# Altium schematic symbol library Schlib1.SchLib: 19 symbols
Pins are listed as number, name and electrical type; pins without a type are passive.

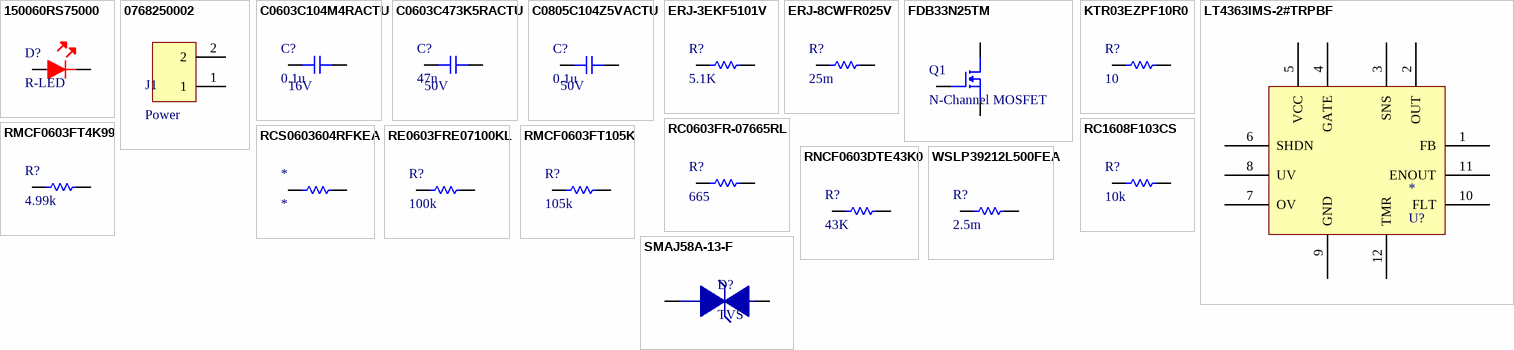
[diagram p0: symbols 150060RS75000 to WSLP39212L500FEA]

## 150060RS75000
designator D?, comment R-LED
LED Low-Power Uni-Color Red 630nm 2V 2-Pin Chip 0603(1608Metric) T/R; Manufacturer: Wurth Electronics; Manufacturer Part Number: 150060RS75000; Viewing Angle: 140°; Lens Style: Clear,Rectangular; Luminous Intensity: 250mcd; Forward Current: 30mA; Wavelength: 625nm; Test Current: 20mA; Supplier 1: Digi-Key; RoHS: Yes; Category: LEDs; Stock 1: 42280; Pricing 1: 1=0.15000, 50=0.13800, 100=0.11800, 500=0.10200, 1000=0.09900 (USD); Mount: Surface Mount; Case/Package: 0603; Color: Red; Case Code (Metric): 1608; Case Code (Imperial): 0603; Min Operating Temperature: -40°C; Max Operating Temperature: 85°C; Package Quantity: 1; Packaging: Cut Tape; Forward Voltage: 2V; Dominant Wavelength: 625nm; Length: 1.6mm; Width: 0.8mm; Height: 0.7mm; REACH SVHC: Unknown; RoHS Compliant: Yes; ComponentLink1URL: https://datasheet.ciiva.com/29563/150060rs75000-29563040.pdf?src-supplier=Digi-Key; ComponentLink1Description: https://datasheet.ciiva.com/29563/150060rs75000-29563040.pdf?src-supplier=Digi-Key; ComponentLink2URL: https://datasheet.ciiva.com/29279/759428-da-01-en-chipled-0603-w-kl-rot-150060rs75000-29279196.pdf?src-supplier=Conrad; ComponentLink2Description: https://datasheet.ciiva.com/29279/759428-da-01-en-chipled-0603-w-kl-rot-150060rs75000-29279196.pdf?src-supplier=Conrad; Supplier Part Number 1: 732-4978-1-ND
footprint D-0603 (Molded Diode, 2-Leads, Body 1.50x0.80mm, IPC Medium Density)
pins: 1, 2

## 0768250002
designator J1, comment Power
Mega-Fit Right-Angle Header, 2 Circuits, Tin (Sn) Plating, UL 94 V-0, Glow-Wire Capable, Tray; Manufacturer: Molex; Manufacturer Part Number: 0768250002; Number of Positions: 2; Connector Type: Male Pin; Row Spacing: 0.224inch; Supplier 1: Digi-Key; RoHS: Yes; Category: Headers and Wire Housings; Stock 1: 41185; Pricing 1: 1=1.31000, 10=1.08200, 80=0.90150, 1850=0.67615, 3700=0.65361 (USD); Mount: Through Hole; Color: Black; Contact Plating: Tin; Number of Rows: 2; Termination: Solder; Packaging: Tray; Fastening Type: Ramp; ComponentLink1URL: http://www.farnell.com/datasheets/2216551.pdf?src-supplier=Farnell; ComponentLink1Description: http://www.farnell.com/datasheets/2216551.pdf?src-supplier=Farnell; ComponentLink2URL: https://www.molex.com/pdm_docs/sd/768250002_sd.pdf?src-supplier=Digi-Key; ComponentLink2Description: https://www.molex.com/pdm_docs/sd/768250002_sd.pdf?src-supplier=Digi-Key; ComponentLink3URL: http://www.farnell.com/datasheets/2216551.pdf?src-supplier=Newark; ComponentLink3Description: http://www.farnell.com/datasheets/2216551.pdf?src-supplier=Newark; Supplier Part Number 1: WM11969-ND
footprint 2X1PIN
pins: 1, 2

## C0603C104M4RACTU
designator C?, comment 0.1u  Voltage Rating: 16V
Cap Ceramic 0.1uF 16V X7R 20% SMD 0603 125°C Paper T/R; Manufacturer: KEMET; Manufacturer Part Number: C0603C104M4RACTU; Capacitance: 100nF; Supplier 1: Digi-Key; RoHS: Yes; Category: Ceramic Capacitors; Stock 1: 293652; Pricing 1: 1=0.10000, 10=0.03300, 50=0.01800, 100=0.01470, 500=0.01046, 1000=0.00822 (USD); Mount: Surface Mount,PCB; Case/Package: 0603; Number of Pins: 2; Case Code (Metric): 1608; Case Code (Imperial): 0603; Dielectric Material: Ceramic; Min Operating Temperature: -55°C; Max Operating Temperature: 125°C; Package Quantity: 1; Tolerance: 20%; Packaging: Tape and Reel; Voltage Rating (DC): 16V; Dielectric: X7R; Termination: SMD/SMT; Series: C; Construction: Flat; Length: 1.6mm; Width: 0.031inch; Height: 0.8mm; Thickness: 0.034inch; Lead Pitch: 0.7mm; Depth: 0.8mm; Radiation Hardening: No; REACH SVHC: No SVHC; RoHS Compliant: Yes; ComponentLink1URL: https://datasheet.ciiva.com/7823/kem-c1002-x7r-smd-7823992.pdf?src-supplier=Element14; ComponentLink1Description: https://datasheet.ciiva.com/7823/kem-c1002-x7r-smd-7823992.pdf?src-supplier=Element14; ComponentLink2URL: https://datasheet.ciiva.com/7823/kem-c1002-x7r-smd-7823993.pdf?src-supplier=Element14; ComponentLink2Description: https://datasheet.ciiva.com/7823/kem-c1002-x7r-smd-7823993.pdf?src-supplier=Element14; ComponentLink3URL: https://datasheet.ciiva.com/14589/70095383-14589450.pdf?src-supplier=Allied+Electronics; ComponentLink3Description: https://datasheet.ciiva.com/14589/70095383-14589450.pdf?src-supplier=Allied+Electronics; ComponentLink4URL: https://datasheet.ciiva.com/18102/getdatasheetpartid-66190-18102310.pdf?src-supplier=Verical; ComponentLink4Description: https://datasheet.ciiva.com/18102/getdatasheetpartid-66190-18102310.pdf?src-supplier=Verical; ComponentLink5URL: https://datasheet.ciiva.com/18192/getdatasheetpartid-302288-18192716.pdf?src-supplier=Verical; ComponentLink5Description: https://datasheet.ciiva.com/18192/getdatasheetpartid-302288-18192716.pdf?src-supplier=Verical; Supplier Part Number 1: 339-C0603C104M4RAC7867CT-ND
footprint C0603 (Chip Capacitor, 2-Leads, Body 1.60x0.80mm, IPC Medium Density)
pins: 1, 2

## C0603C473K5RACTU
designator C?, comment 47n  Voltage Rating (DC): 50V
C0603C 47nF Ceramic Multilayer Capacitor; 50 VDC; +125degC; X7R Dielec; +/-10%; Manufacturer: KEMET; Manufacturer Part Number: C0603C473K5RACTU; Tolerance: 10%; Dissipation Factor: 2.5%; Supplier 1: Digi-Key; RoHS: Yes; Category: Ceramic Capacitors; Stock 1: 1799272; Pricing 1: 1=0.10000, 10=0.07100, 50=0.03860, 100=0.03160, 500=0.02254, 1000=0.01771 (USD); Mount: Surface Mount,PCB; Case/Package: 0603; Number of Pins: 2; Dielectric Material: Ceramic; Case Code (Metric): 1608; Case Code (Imperial): 0603; Min Operating Temperature: -55°C; Max Operating Temperature: 125°C; Capacitance: 47nF; Dielectric: X7R; Packaging: Tape and Reel; Package Quantity: 1; Voltage Rating: 50V; Termination: SMD/SMT; Series: C; Construction: Flat; Voltage: 50V; Length: 1.6mm; Width: 0.8mm; Height: 0.8mm; Lead Pitch: 0.7mm; Depth: 0.8mm; Thickness: 0.034inch; Radiation Hardening: No; RoHS Compliant: Yes; REACH SVHC: No SVHC; ComponentLink1URL: https://datasheet.ciiva.com/6074/1776093-6074329.pdf?src-supplier=Farnell; ComponentLink1Description: https://datasheet.ciiva.com/6074/1776093-6074329.pdf?src-supplier=Farnell; ComponentLink2URL: https://datasheet.ciiva.com/28682/1851736-28682298.pdf?src-supplier=Element14; ComponentLink2Description: https://datasheet.ciiva.com/28682/1851736-28682298.pdf?src-supplier=Element14; ComponentLink3URL: https://datasheet.ciiva.com/18193/getdatasheetpartid-94279-18193115.pdf?src-supplier=Verical; ComponentLink3Description: https://datasheet.ciiva.com/18193/getdatasheetpartid-94279-18193115.pdf?src-supplier=Verical; ComponentLink4URL: https://datasheet.ciiva.com/7823/1776093-7823803.pdf?src-supplier=Element14; ComponentLink4Description: https://datasheet.ciiva.com/7823/1776093-7823803.pdf?src-supplier=Element14; ComponentLink5URL: https://datasheet.ciiva.com/7823/1776093-7823804.pdf?src-supplier=Element14; ComponentLink5Description: https://datasheet.ciiva.com/7823/1776093-7823804.pdf?src-supplier=Element14; Supplier Part Number 1: 339-C0603C473K5RAC7867CT-ND
footprint C0603 (Chip Capacitor, 2-Leads, Body 1.60x0.80mm, IPC Medium Density)
pins: 1, 2

## C0805C104Z5VACTU
designator C?, comment 0.1u  Voltage Rating: 50V
Cap Ceramic 0.1uF 50V Y5V -20% to 80% SMD 0805 85°C Paper T/R; Manufacturer: KEMET; Manufacturer Part Number: C0805C104Z5VACTU; Capacitance: 100nF; Dissipation Factor: 5%; Supplier 1: Digi-Key; RoHS: Yes; Category: Ceramic Capacitors; Stock 1: 1385; Pricing 1: 1=0.10000, 10=0.05000, 50=0.02700, 100=0.02210, 500=0.01578, 1000=0.01240 (USD); Mount: Surface Mount,PCB; Case/Package: 0805; Number of Pins: 2; Case Code (Metric): 2012; Case Code (Imperial): 0805; Dielectric Material: Ceramic; Min Operating Temperature: -30°C; Max Operating Temperature: 85°C; Package Quantity: 1; Tolerance: 80%; Packaging: Tape and Reel; Voltage Rating (DC): 50V; Dielectric: Y5V; Termination: SMD/SMT; Voltage: 50V; Series: C0805C; Construction: Flat; Length: 2mm; Width: 0.049inch; Height: 0.9mm; Thickness: 0.039inch; Lead Pitch: 0.75mm; Depth: 1.25mm; Radiation Hardening: No; REACH SVHC: No SVHC; Lead Free: Lead Free; RoHS Compliant: Yes; ComponentLink1URL: https://datasheet.ciiva.com/7842/1470417-7842543.pdf?src-supplier=Element14; ComponentLink1Description: https://datasheet.ciiva.com/7842/1470417-7842543.pdf?src-supplier=Element14; ComponentLink2URL: https://datasheet.ciiva.com/18219/getdatasheetpartid-37101-18219255.pdf?src-supplier=Verical; ComponentLink2Description: https://datasheet.ciiva.com/18219/getdatasheetpartid-37101-18219255.pdf?src-supplier=Verical; ComponentLink3URL: https://datasheet.ciiva.com/26847/getdatasheetpartid-321176-26847799.pdf?src-supplier=Verical; ComponentLink3Description: https://datasheet.ciiva.com/26847/getdatasheetpartid-321176-26847799.pdf?src-supplier=Verical; ComponentLink4URL: https://datasheet.ciiva.com/14597/70095383-14597846.pdf?src-supplier=Allied+Electronics; ComponentLink4Description: https://datasheet.ciiva.com/14597/70095383-14597846.pdf?src-supplier=Allied+Electronics; ComponentLink5URL: https://datasheet.ciiva.com/14608/70095383-14608251.pdf?src-supplier=Allied+Electronics; ComponentLink5Description: https://datasheet.ciiva.com/14608/70095383-14608251.pdf?src-supplier=Allied+Electronics; Supplier Part Number 1: 399-C0805C104Z5VAC7800CT-ND
footprint C0805 (Chip Capacitor, 2-Leads, Body 2.00x1.25mm, IPC Medium Density)
pins: 1, 2

## ERJ-3EKF5101V
designator R?, comment 5.1K
Res Thick Film 0603 5.1K Ohm 1% 1/10W ±100ppm/°C Molded SMD Punched Carrier T/R; Manufacturer: Panasonic; Manufacturer Part Number: ERJ-3EKF5101V; Resistance: 5.1kR; Power Rating: 100mW; Voltage Rating: 75V; Supplier 1: Digi-Key; RoHS: Yes; Category: Chip SMD Resistors; Stock 1: 35748; Pricing 1: 1=0.10000, 10=0.04200, 100=0.01700, 1000=0.00762, 2500=0.00661 (USD); Mount: Surface Mount; Case/Package: 0603; Contact Plating: Tin; Case Code (Imperial): 0603; Case Code (Metric): 1608; Weight: 7.1E-05oz; Size Code: 0603; Min Operating Temperature: -55°C; Max Operating Temperature: 155°C; Tolerance: 1%; Package Quantity: 1; Resistor Type: Thick Film; Termination: SMD/SMT; Temperature Coefficient: 100ppm/°C; Series: ERJ; Packaging: Tape and Reel; Number of Terminations: 2; Max Power Dissipation: 100mW; Voltage Rating (DC): 75V; Features: Automotive AEC-Q200; Resistance Tolerance: 1%; Construction: Rectangular; Length: 1.6mm; Width: 0.8mm; Height: 0.022inch; Depth: 0.8mm; Radiation Hardening: No; REACH SVHC: No SVHC; Military Standard: Not; Lead Free: Lead Free; RoHS Compliant: Yes; ComponentLink1URL: https://datasheet.ciiva.com/5860/426256-5860664.pdf?src-supplier=Farnell; ComponentLink1Description: https://datasheet.ciiva.com/5860/426256-5860664.pdf?src-supplier=Farnell; ComponentLink2URL: https://datasheet.ciiva.com/28547/1678782-28547194.pdf?src-supplier=Element14; ComponentLink2Description: https://datasheet.ciiva.com/28547/1678782-28547194.pdf?src-supplier=Element14; ComponentLink3URL: https://datasheet.ciiva.com/28686/1678782-28686921.pdf?src-supplier=Element14; ComponentLink3Description: https://datasheet.ciiva.com/28686/1678782-28686921.pdf?src-supplier=Element14; ComponentLink4URL: https://datasheet.ciiva.com/16785/70260748-16785996.pdf?src-supplier=Allied+Electronics; ComponentLink4Description: https://datasheet.ciiva.com/16785/70260748-16785996.pdf?src-supplier=Allied+Electronics; ComponentLink5URL: https://datasheet.ciiva.com/16440/aoa0000ce3-16440166.pdf?src-supplier=Future+Electronics; ComponentLink5Description: https://datasheet.ciiva.com/16440/aoa0000ce3-16440166.pdf?src-supplier=Future+Electronics; ComponentLink6URL: https://datasheet.ciiva.com/16523/aoa0000ce2-16523461.pdf?src-supplier=Avnet+Asia; ComponentLink6Description: https://datasheet.ciiva.com/16523/aoa0000ce2-16523461.pdf?src-supplier=Avnet+Asia; Supplier Part Number 1: P5.10KHCT-ND
footprint R0603 (Chip Resistor, 2-Leads, Body 1.60x0.80mm, IPC Medium Density)
pins: 1, 2

## ERJ-8CWFR025V
designator R?, comment 25m
Res Thick Film 1206 25m Ohm 1% 1W ±50ppm/°C Molded SMD Punched Paper T/R; Manufacturer: Panasonic; Manufacturer Part Number: ERJ-8CWFR025V; Resistance: 25mR; Temperature Coefficient: 75ppm/°C; Supplier 1: Digi-Key; RoHS: Yes; Category: Chip SMD Resistors; Stock 1: 24405; Pricing 1: 1=0.64000, 10=0.49000, 100=0.20610, 1000=0.11371, 2500=0.10660 (USD); Mount: Surface Mount; Case/Package: 1206; Case Code (Metric): 3216; Case Code (Imperial): 1206; Min Operating Temperature: -55°C; Max Operating Temperature: 155°C; Packaging: Tape and Reel; Power Rating: 1W; Tolerance: 1%; Resistor Type: Thick Film; Number of Terminations: 2; Max Power Dissipation: 1W; Features: Automotive AEC-Q200; Length: 0.126inch; Width: 0.063inch; Height: 0.03inch; ComponentLink1URL: http://www.mouser.com/ds/2/315/AOA0000C295-1109214.pdf?src-supplier=Mouser; ComponentLink1Description: http://www.mouser.com/ds/2/315/AOA0000C295-1109214.pdf?src-supplier=Mouser; ComponentLink2URL: https://industrial.panasonic.com/cdbs/www-data/pdf/RDN0000/AOA0000C313.pdf?src-supplier=Digi-Key; ComponentLink2Description: https://industrial.panasonic.com/cdbs/www-data/pdf/RDN0000/AOA0000C313.pdf?src-supplier=Digi-Key; ComponentLink3URL: http://industrial.panasonic.com/www-data/pdf/AOA0000/AOA0000CE3.pdf?src-supplier=Avnet; ComponentLink3Description: http://industrial.panasonic.com/www-data/pdf/AOA0000/AOA0000CE3.pdf?src-supplier=Avnet; ComponentLink4URL: http://www.onlinecomponents.com/datasheet/erj-8cwfr025v.aspx?p=44470048&src-supplier=Onlinecomponents.com; ComponentLink4Description: http://www.onlinecomponents.com/datasheet/erj-8cwfr025v.aspx?p=44470048&src-supplier=Onlinecomponents.com; ComponentLink5URL: http://www.farnell.com/datasheets/1843557.pdf?src-supplier=Newark; ComponentLink5Description: http://www.farnell.com/datasheets/1843557.pdf?src-supplier=Newark; Supplier Part Number 1: P0.025BVCT-ND
footprint R1206 (Chip Resistor, 2-Leads, Body 3.20x1.60mm, IPC Medium Density)
pins: 1, 2

## FDB33N25TM
designator Q1, comment N-Channel MOSFET
N-Channel Power MOSFET, UniFETTM, 250 V, 33 A, 94 mΩ, D2PAK; Manufacturer: ON Semiconductor / Fairchild; Manufacturer Part Number: FDB33N25TM; Rise Time: 230ns; Continuous Drain Current (ID): 33A; Fall Time: 120ns; Turn-Off Delay Time: 75ns; Turn-On Delay Time: 35ns; Gate to Source Voltage (Vgs): 30V; Rds On Max: 94mR; Input Capacitance: 2.135nF; Max Power Dissipation: 235W; Number of Elements: 1; Nominal Vgs: 3V; Drain to Source Voltage (Vdss): 250V; Element Configuration: Single; Supplier 1: RSComponents; RoHS: Yes; Category: MOSFETs; Stock 1: 86; Pricing 1: 2=2.32700, 10=1.98700, 100=1.54200, 250=1.50000, 500=1.29900, 2=1.67500, 10=1.43000, 100=1.11000, 250=1.08000, 500=0.93500 (USD); Mount: Surface Mount; Case/Package: D2PAK; Number of Pins: 3; Contact Plating: Tin,Matte; Weight: 1.31247g; Min Operating Temperature: -55°C; Max Operating Temperature: 150°C; Packaging: Tape and Reel; Package Quantity: 800; Drain to Source Breakdown Voltage: 250V; Power Dissipation: 235W; Drain to Source Resistance: 94mR; Threshold Voltage: 3V; On-State Resistance: 94MR; Polarity: N-CHANNEL; Series: UniFET™; Drain-source On Resistance-Max: 94MR; Length: 10.67mm; Width: 11.33mm; Height: 4.83mm; Radiation Hardening: No; REACH SVHC: No SVHC; Lead Free: Lead Free; ComponentLink1URL: https://datasheet.ciiva.com/22655/1781196-22655255.pdf?src-supplier=Element14; ComponentLink1Description: https://datasheet.ciiva.com/22655/1781196-22655255.pdf?src-supplier=Element14; ComponentLink2URL: https://datasheet.ciiva.com/25625/0900766b810c95c5-25625337.pdf?src-supplier=RSComponents; ComponentLink2Description: https://datasheet.ciiva.com/25625/0900766b810c95c5-25625337.pdf?src-supplier=RSComponents; ComponentLink3URL: https://datasheet.ciiva.com/26145/fdb33n25-26145111.pdf?src-supplier=Avnet+Europe; ComponentLink3Description: https://datasheet.ciiva.com/26145/fdb33n25-26145111.pdf?src-supplier=Avnet+Europe; ComponentLink4URL: https://datasheet.ciiva.com/933/fdb33n25-933830.pdf?src-supplier=Digi-Key; ComponentLink4Description: https://datasheet.ciiva.com/933/fdb33n25-933830.pdf?src-supplier=Digi-Key; ComponentLink5URL: https://datasheet.ciiva.com/933/fdb33n25-933831.pdf?src-supplier=Digi-Key; ComponentLink5Description: https://datasheet.ciiva.com/933/fdb33n25-933831.pdf?src-supplier=Digi-Key; Supplier Part Number 1: 7598973
footprint N-MOS (D2-PAK, 3-Pads, Body 7.94x8.70mm (max), IPC Medium Density)
pins: 1, 2, 3

## KTR03EZPF10R0
designator R?, comment 10
KTR Series 0603 10 Ohm ±1 % 0.1 W ±100 ppm/°C Surface Mount Thick Film Resistor; Manufacturer: Rohm; Manufacturer Part Number: KTR03EZPF10R0; Resistance: 10R; Tolerance: 1%; Max Power Dissipation: 100mW; Supplier 1: Digi-Key; RoHS: Yes; Category: Chip SMD Resistors; Stock 1: 25; Pricing 1: 1=0.15000, 10=0.13500, 100=0.05180, 1000=0.02277, 2500=0.01966 (USD); Case/Package: 0603; Case Code (Metric): 1608; Case Code (Imperial): 0603; Min Operating Temperature: -55°C; Max Operating Temperature: 155°C; Package Quantity: 1; Packaging: Tape and Reel; Resistor Type: Thick Film; Number of Terminations: 2; Temperature Coefficient: 100ppm/°C; Features: Automotive AEC-Q200; Series: KTR; Length: 0.063inch; Width: 0.031inch; Height: 0.022inch; Lead Free: Lead Free; RoHS Compliant: Yes; ComponentLink1URL: https://datasheet.ciiva.com/2498/ktr-2498917.pdf?src-supplier=Digi-Key; ComponentLink1Description: https://datasheet.ciiva.com/2498/ktr-2498917.pdf?src-supplier=Digi-Key; ComponentLink2URL: https://datasheet.ciiva.com/2498/ktr-2498918.pdf?src-supplier=Digi-Key; ComponentLink2Description: https://datasheet.ciiva.com/2498/ktr-2498918.pdf?src-supplier=Digi-Key; ComponentLink3URL: https://datasheet.ciiva.com/2498/ktr-2498919.pdf?src-supplier=Digi-Key; ComponentLink3Description: https://datasheet.ciiva.com/2498/ktr-2498919.pdf?src-supplier=Digi-Key; Supplier Part Number 1: RHM10.0AYCT-ND
footprint R0603 (Chip Resistor, 2-Leads, Body 1.60x0.80mm, IPC Medium Density)
pins: 1, 2

## LT4363IMS-2#TRPBF
designator *, comment U?
Ms-Hot Swap/High Voltage High Voltage Surge Stopper With Current Limit. Auto-Retry After Fault; Manufacturer: Analog Devices / Linear Technology; Manufacturer Part Number: LT4363IMS-2#TRPBF; Working Voltage: 80V; Clamping Voltage: 27V; Number of Circuits: 1; Supplier 1: Digi-Key; RoHS: Yes; Category: Voltage Supervisors; Pricing 1: 1=6.21000, 10=5.57500, 25=5.27080, 100=4.56810, 250=4.33380, 500=3.88872, 1000=3.64650 (USD); Case/Package: TSSOP; Number of Pins: 12; Package Quantity: 2500; Packaging: Tape and Reel; Lead Free: Lead Free; RoHS Compliant: Yes; ComponentLink1URL: https://datasheet.ciiva.com/329/40854-329672.pdf?src-supplier=Digi-Key; ComponentLink1Description: https://datasheet.ciiva.com/329/40854-329672.pdf?src-supplier=Digi-Key; Supplier Part Number 1: LT4363IMS-2#TRPBFDKR-ND
footprint TSOP65P490X110-12N (TSOP, 12-Leads, Body 4.04x3.00mm, Pitch 0.65mm, IPC Medium Density)
pins: 1 FB, 2 OUT, 3 SNS, 4 GATE, 5 VCC, 6 SHDN, 7 OV, 8 UV, 9 GND, 10 FLT, 11 ENOUT, 12 TMR

## RC0603FR-07665RL
designator R?, comment 665
Res Thick Film 0603 665 Ohm 1% 1/10W ±100ppm/°C Molded SMD Paper T/R; Manufacturer: Yageo; Manufacturer Part Number: RC0603FR-07665RL; Resistance: 665R; Power Rating: 100mW; Voltage Rating: 75V; Voltage Rating (DC): 50V; Supplier 1: Digi-Key; RoHS: Yes; Category: Chip SMD Resistors; Stock 1: 146637; Pricing 1: 1=0.10000, 10=0.02400, 100=0.00970, 1000=0.00436, 2500=0.00378 (USD); Case/Package: 0603; Contact Plating: Tin,Matte; Case Code (Imperial): 0603; Case Code (Metric): 1608; Weight: 7.1E-05oz; Min Operating Temperature: -55°C; Max Operating Temperature: 155°C; Tolerance: 1%; Resistor Type: Thick Film; Temperature Coefficient: 100ppm/°C; Packaging: Tape and Reel; Package Quantity: 1; Termination: SMD/SMT; Number of Terminations: 2; Max Power Dissipation: 100mW; Features: Moisture Resistant; Series: RC; Construction: Rectangular; Length: 1.6mm; Width: 0.8mm; Height: 0.022inch; Depth: 0.8mm; Military Standard: Not; Lead Free: Lead Free; RoHS Compliant: Yes; ComponentLink1URL: https://datasheet.ciiva.com/8885/pyu-rc0603-51-rohs-l-4-8885031.pdf?src-supplier=Avnet; ComponentLink1Description: https://datasheet.ciiva.com/8885/pyu-rc0603-51-rohs-l-4-8885031.pdf?src-supplier=Avnet; ComponentLink2URL: https://datasheet.ciiva.com/2454/pyu-r-int-thick-7-2454390.pdf?src-supplier=Digi-Key; ComponentLink2Description: https://datasheet.ciiva.com/2454/pyu-r-int-thick-7-2454390.pdf?src-supplier=Digi-Key; ComponentLink3URL: https://datasheet.ciiva.com/2454/pyu-r-int-thick-7-2454391.pdf?src-supplier=Digi-Key; ComponentLink3Description: https://datasheet.ciiva.com/2454/pyu-r-int-thick-7-2454391.pdf?src-supplier=Digi-Key; ComponentLink4URL: https://datasheet.ciiva.com/2454/pyu-r-int-thick-7-2454392.pdf?src-supplier=Digi-Key; ComponentLink4Description: https://datasheet.ciiva.com/2454/pyu-r-int-thick-7-2454392.pdf?src-supplier=Digi-Key; ComponentLink5URL: https://datasheet.ciiva.com/28388/pyu-rc0603-51-rohs-l-4-28388745.pdf?src-supplier=Avnet+Europe; ComponentLink5Description: https://datasheet.ciiva.com/28388/pyu-rc0603-51-rohs-l-4-28388745.pdf?src-supplier=Avnet+Europe; Supplier Part Number 1: 311-665HRCT-ND
footprint R0603 (Chip Resistor, 2-Leads, Body 1.60x0.80mm, IPC Medium Density)
pins: 1, 2

## RC1608F103CS
designator R?, comment 10k
Res Thick Film 0603 10K Ohm 1% 1/10W ±100ppm/°C Molded SMD SMD T/R; Manufacturer: Samsung; Manufacturer Part Number: RC1608F103CS; Resistance: 10kR; Power Rating: 100mW; Supplier 1: Digi-Key; RoHS: Yes; Category: Chip SMD Resistors; Stock 1: 1193; Pricing 1: 1=0.10000, 10=0.07400, 100=0.02850, 1000=0.01254 (USD); Case/Package: 0603; Contact Plating: Tin; Case Code (Metric): 1608; Case Code (Imperial): 0603; Size Code: 0603; Min Operating Temperature: -55°C; Max Operating Temperature: 155°C; Tolerance: 1%; Resistor Type: Thick Film; Temperature Coefficient: 100ppm/°C; Packaging: Tape and Reel; Number of Terminations: 2; Max Power Dissipation: 100mW; Features: Moisture Resistant; Series: RC; Construction: Rectangular; Length: 0.063inch; Width: 0.031inch; Height: 0.022inch; Depth: 0.8mm; Radiation Hardening: No; Military Standard: Not; RoHS Compliant: Yes; ComponentLink1URL: https://datasheet.ciiva.com/16200/rc-series-16200170.pdf?src-supplier=Future+Electronics; ComponentLink1Description: https://datasheet.ciiva.com/16200/rc-series-16200170.pdf?src-supplier=Future+Electronics; Supplier Part Number 1: 1276-3485-1-ND
footprint R0603 (Chip Resistor, 2-Leads, Body 1.60x0.80mm, IPC Medium Density)
pins: 1, 2

## RCS0603604RFKEA
designator *
RES SMD 604 OHM 1% 1/4W 0603; Manufacturer: Vishay Dale; Manufacturer Part Number: RCS0603604RFKEA; Resistance: 604R; Max Power Dissipation: 250mW; Temperature Coefficient: 100ppm/°C; Supplier 1: Digi-Key; RoHS: Yes; Category: Chip SMD Resistors; Stock 1: 3788; Pricing 1: 1=0.15000, 10=0.13300, 100=0.05120, 1000=0.02252, 2500=0.01945 (USD); Case/Package: 0603; Min Operating Temperature: -55°C; Max Operating Temperature: 155°C; Package Quantity: 5000; Packaging: Tape and Reel; Resistor Type: Thick Film; Number of Terminations: 2; Tolerance: 1%; Features: Automotive AEC-Q200; Length: 0.061inch; Width: 0.033inch; Height: 0.02inch; ComponentLink1URL: http://www.vishay.com/docs/20065/rcse3.pdf?src-supplier=Digi-Key; ComponentLink1Description: http://www.vishay.com/docs/20065/rcse3.pdf?src-supplier=Digi-Key; Supplier Part Number 1: 541-RCS0603604RFKEACT-ND
pins: 1, 2

## RE0603FRE07100KL
designator R?, comment 100k
Res Thick Film 0603 100K Ohm 1% 1/10W ±50ppm/°C Molded SMD Paper T/R; Manufacturer: Yageo; Manufacturer Part Number: RE0603FRE07100KL; Resistance: 100kR; Max Power Dissipation: 100mW; Supplier 1: Digi-Key; RoHS: Yes; Category: Chip SMD Resistors; Stock 1: 8496; Pricing 1: 1=0.10000, 10=0.03600, 100=0.01450, 1000=0.00649, 2500=0.00563 (USD); Case/Package: 0603; Min Operating Temperature: -55°C; Max Operating Temperature: 155°C; Packaging: Tape and Reel; Resistor Type: Thick Film; Number of Terminations: 2; Tolerance: 1%; Temperature Coefficient: 50ppm/°C; Features: Moisture Resistant; Length: 0.063inch; Width: 0.032inch; Height: 0.022inch; RoHS Compliant: Yes; ComponentLink1URL: http://www.yageo.com/NewPortal/yageodocoutput?fileName=/pdf/R-Chip/PYu-RE_105_RoHS_L_6.pdf&src-supplier=Digi-Key; ComponentLink1Description: http://www.yageo.com/NewPortal/yageodocoutput?fileName=/pdf/R-Chip/PYu-RE_105_RoHS_L_6.pdf&src-supplier=Digi-Key; Supplier Part Number 1: 13-RE0603FRE07100KLCT-ND
footprint R0603 (Chip Resistor, 2-Leads, Body 1.60x0.80mm, IPC Medium Density)
pins: 1, 2

## RMCF0603FT4K99
designator R?, comment 4.99k
Res Thick Film 0603 4.99K Ohm 1% 1/10W ±100ppm/°C Molded SMD SMD Paper T/R; Manufacturer: Stackpole Electronics; Manufacturer Part Number: RMCF0603FT4K99; Resistance: 4.99kR; Power Rating: 100mW; Working Voltage: 75V; Supplier 1: Digi-Key; RoHS: Yes; Category: Chip SMD Resistors; Stock 1: 1158; Pricing 1: 1=0.10000, 10=0.01700, 100=0.00680, 1000=0.00305, 2500=0.00264 (USD); Mount: Surface Mount; Case/Package: 0603; Case Code (Metric): 1608; Case Code (Imperial): 0603; Contact Plating: Tin,Matte; Min Operating Temperature: -55°C; Max Operating Temperature: 155°C; Packaging: Tape and Reel; Tolerance: 1%; Package Quantity: 1; Resistor Type: Thick Film; Number of Terminations: 2; Max Power Dissipation: 100mW; Temperature Coefficient: 100ppm/°C; Features: Automotive AEC-Q200; Series: RMCF; Construction: Rectangular; Technology: THICK FILM; Length: 1.55mm; Width: 0.031inch; Height: 0.022inch; Depth: 0.8mm; Radiation Hardening: No; Military Standard: Not; Lead Free: Lead Free; RoHS Compliant: Yes; ComponentLink1URL: https://datasheet.ciiva.com/15215/getdatasheetpartid-407528-15215989.pdf?src-supplier=Verical; ComponentLink1Description: https://datasheet.ciiva.com/15215/getdatasheetpartid-407528-15215989.pdf?src-supplier=Verical; Supplier Part Number 1: RMCF0603FT4K99CT-ND
footprint R0603 (Chip Resistor, 2-Leads, Body 1.60x0.80mm, IPC Medium Density)
pins: 1, 2

## RMCF0603FT105K
designator R?, comment 105k
Res Thick Film 0603 105K Ohm 1% 1/10W ±100ppm/°C Molded SMD SMD Paper T/R; Manufacturer: Stackpole Electronics; Manufacturer Part Number: RMCF0603FT105K; Resistance: 105kR; Power Rating: 100mW; Supplier 1: Digi-Key; RoHS: Yes; Category: Chip SMD Resistors; Stock 1: 53202; Pricing 1: 1=0.10000, 10=0.01700, 100=0.00680, 1000=0.00305, 2500=0.00264 (USD); Mount: Surface Mount; Case/Package: 0603; Case Code (Metric): 1608; Case Code (Imperial): 0603; Contact Plating: Tin,Matte; Size Code: 0603; Min Operating Temperature: -55°C; Max Operating Temperature: 155°C; Tolerance: 1%; Packaging: Tape and Reel; Resistor Type: Thick Film; Number of Terminations: 2; Max Power Dissipation: 100mW; Temperature Coefficient: 100ppm/°C; Features: Automotive AEC-Q200; Series: RMCF; Length: 0.061inch; Width: 0.031inch; Height: 0.022inch; Radiation Hardening: No; Lead Free: Lead Free; RoHS Compliant: Yes; ComponentLink1URL: https://www.seielect.com/catalog/SEI-RMCF_RMCP.pdf?src-supplier=Avnet; ComponentLink1Description: https://www.seielect.com/catalog/SEI-RMCF_RMCP.pdf?src-supplier=Avnet; ComponentLink2URL: https://www.seielect.com/Catalog/SEI-RMCF_RMCP.pdf?src-supplier=Digi-Key; ComponentLink2Description: https://www.seielect.com/Catalog/SEI-RMCF_RMCP.pdf?src-supplier=Digi-Key; ComponentLink3URL: https://www.seielect.com/catalog/SEI-Packaging.pdf?src-supplier=Digi-Key; ComponentLink3Description: https://www.seielect.com/catalog/SEI-Packaging.pdf?src-supplier=Digi-Key; ComponentLink4URL: http://www.seielect.com/Catalog/SEI-RMC.pdf?src-supplier=Future+Electronics; ComponentLink4Description: http://www.seielect.com/Catalog/SEI-RMC.pdf?src-supplier=Future+Electronics; Supplier Part Number 1: RMCF0603FT105KCT-ND
footprint R0603 (Chip Resistor, 2-Leads, Body 1.60x0.80mm, IPC Medium Density)
pins: 1, 2

## RNCF0603DTE43K0
designator R?, comment 43K
RNCF Precision Thin Film Chip Resistor 0603 Size 43K Ohm 0.5% 0.166 W 25 ppm/°C 2-Pin SMD T/R; Manufacturer: Stackpole Electronics; Manufacturer Part Number: RNCF0603DTE43K0; Power Rating: 63mW; Resistance: 43kR; Supplier 1: Digi-Key; RoHS: Yes; Category: Chip SMD Resistors; Stock 1: 9867; Pricing 1: 1=0.13000, 10=0.11000, 100=0.04300, 1000=0.01800, 2500=0.01650 (USD); Mount: Surface Mount; Case/Package: 0603; Min Operating Temperature: -55°C; Max Operating Temperature: 155°C; Tolerance: 0.5%; Packaging: Tape and Reel; RoHS Compliant: Yes; ComponentLink1URL: https://www.seielect.com/catalog/sei-rncf.pdf?src-supplier=Digi-Key; ComponentLink1Description: https://www.seielect.com/catalog/sei-rncf.pdf?src-supplier=Digi-Key; Supplier Part Number 1: RNCF0603DTE43K0CT-ND
footprint R0603 (Chip Resistor, 2-Leads, Body 1.60x0.80mm, IPC Medium Density)
pins: 1, 2

## SMAJ58A-13-F
designator D?, comment TVS
SMAJ Series 58 V 400 W SMT Uni-Directional TVS Diode - DO-214AC; Manufacturer: Diodes; Manufacturer Part Number: SMAJ58A-13-F; Direction: Unidirectional; Reverse Breakdown Voltage: 64.4V; Number of Elements: 1; Reverse Standoff Voltage: 58V; Clamping Voltage: 93.6V; Peak Pulse Power: 400W; Max Reverse Leakage Current: 5uA; Test Current: 1mA; Peak Pulse Current: 4.3A; Element Configuration: Single; Power Line Protection: No; Diode Type: ZENER; Max Breakdown Voltage: 71.2V; Current: 43A; Forward Voltage: 3.5V; Capacitance: 180pF; Supplier 1: RSComponents; RoHS: Yes; Category: TVS Diodes; Stock 1: 1; Pricing 1: 50=0.37000, 250=0.16700, 1250=0.12900, 2500=0.12200, 5000=0.11100 (USD); Mount: Surface Mount; Case/Package: SMA; Number of Pins: 2; Contact Plating: Tin,Matte; Min Operating Temperature: -55°C; Max Operating Temperature: 150°C; Package Quantity: 5000; Packaging: Tape and Reel; Min Breakdown Voltage: 64.4V; Polarity: Unidirectional; Breakdown Voltage: 64.4V; Leakage Current: 5uA; Termination: SMD/SMT; Series: -; Number of Unidirectional Channels: 1; Max Power Dissipation: 400W; Resistor Type: Zener; Voltage: 58V; Power Dissipation: 400W; Clamping Voltage-Max: 93.6V; ESD Protection: No; Working Voltage: 58V; Max Output Current: 4.3A; Length: 2.92mm; Width: 4.6mm; Height: 2.3mm; Radiation Hardening: No; RoHS Compliant: Yes; Lead Free: Lead Free; ComponentLink1URL: https://datasheet.ciiva.com/334/ds19005-334624.pdf?src-supplier=Digi-Key; ComponentLink1Description: https://datasheet.ciiva.com/334/ds19005-334624.pdf?src-supplier=Digi-Key; ComponentLink2URL: https://datasheet.ciiva.com/34302/1542135-34302430.pdf?src-supplier=Jameco; ComponentLink2Description: https://datasheet.ciiva.com/34302/1542135-34302430.pdf?src-supplier=Jameco; Supplier Part Number 1: 7515010
footprint TVS (Molded Inductor, 2-Leads, Body 4.30x2.61mm, IPC Medium Density)
pins: 1, 2

## WSLP39212L500FEA
designator R?, comment 2.5m
Res Metal Strip 3921 0.0025 Ohm 1% 5W 50ppm/°C Pad SMD Automotive T/R; Manufacturer: Vishay Dale; Manufacturer Part Number: WSLP39212L500FEA; Resistance: 2.5mR; Max Power Dissipation: 9W; Temperature Coefficient: 75ppm/°C; Supplier 1: Digi-Key; RoHS: Yes; Category: Chip SMD Resistors; Stock 1: 2532; Pricing 1: 1=1.99000, 10=1.76100, 25=1.63320, 50=1.53720, 100=1.34500, 250=1.15288, 500=0.96076, 1000=0.85400 (USD); Case/Package: 3921; Min Operating Temperature: -65°C; Max Operating Temperature: 170°C; Package Quantity: 3000; Packaging: Tape and Reel; Resistor Type: Metal Element; Number of Terminations: 2; Tolerance: 1%; Features: Moisture Resistant; Length: 0.394inch; Width: 0.205inch; Height: 0.02inch; RoHS Compliant: Yes; ComponentLink1URL: http://www.vishay.com/docs/30176/wslp3921.pdf?src-supplier=Digi-Key; ComponentLink1Description: http://www.vishay.com/docs/30176/wslp3921.pdf?src-supplier=Digi-Key; Supplier Part Number 1: 541-WSLP39212L500FEACT-ND
footprint R3921 (Chip Resistor, 2-Leads, Body 10.00x5.20mm, IPC Medium Density)
pins: 1, 2